# EAGLE library part NCV7351D1E (library on-semi)
High Speed CAN Transceiver Source: NCV7351-D.PDF <http://www.onsemi.com/PowerSolutions/document/NCV7351-D.PDF>
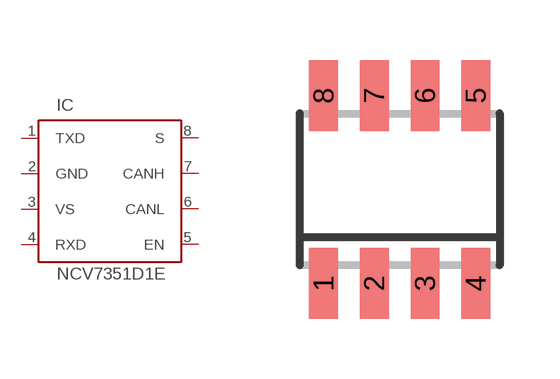
[diagram p0: symbol with the pads of SO08; footprint SO08]

Designator prefix IC

## NCV7351D1E  [SO08]
1  TXD  in
2  GND  pwr
3  VS  pwr
4  RXD  out
5  EN  in
6  CANL  out
7  CANH  out
8  S  in

## Footprint SO08 (pad centres in mm)
8 Lead SOIC Data Sheet No. PD60212 Rev A Source: www.irf.com .. ir2520.pdf
smd 0.72 x 1.78: 1 -1.905,-2.35; 2 -0.635,-2.35; 3 0.635,-2.35; 4 1.905,-2.35; 5 1.905,2.35; 6 0.635,2.35; 7 -0.635,2.35; 8 -1.905,2.35